# EAGLE library part LTC6102-1 (library firefly)
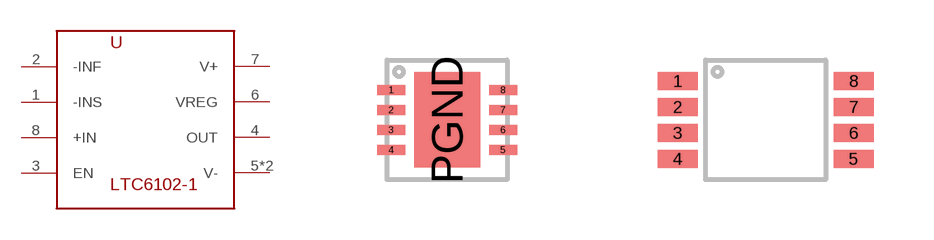
[diagram p23: symbol with the pads of DFN8-DD; footprints DFN8-DD, MSOP8]

Designator prefix -

## LTC6102-1DD  [DFN8-DD]
1  -INS
2  -INF
3  EN
4  OUT
5  V-
6  VREG
7  V+
8  +IN
PGND  V-

## LTC6102-1MS8  [MSOP8]
1  -INS
2  -INF
3  EN
4  OUT
5  V-
6  VREG
7  V+
8  +IN

## Footprint DFN8-DD (pad centres in mm)
smd 0.7 x 0.25: 1 -1.4,0.75; 2 -1.4,0.25; 3 -1.4,-0.25; 4 -1.4,-0.75; 5 1.4,-0.75; 6 1.4,-0.25; 7 1.4,0.25; 8 1.4,0.75
smd 1.65 x 2.38: PGND 0,0

## Footprint MSOP8 (pad centres in mm)
smd 1 x 0.45: 1 -2.2,0.975; 2 -2.2,0.325; 3 -2.2,-0.325; 4 -2.2,-0.975; 5 2.2,-0.975; 6 2.2,-0.325; 7 2.2,0.325; 8 2.2,0.975